# EAGLE library part 4814P-T01E (library EW_Resistors)
BOURNS RESISTOR NETWORK
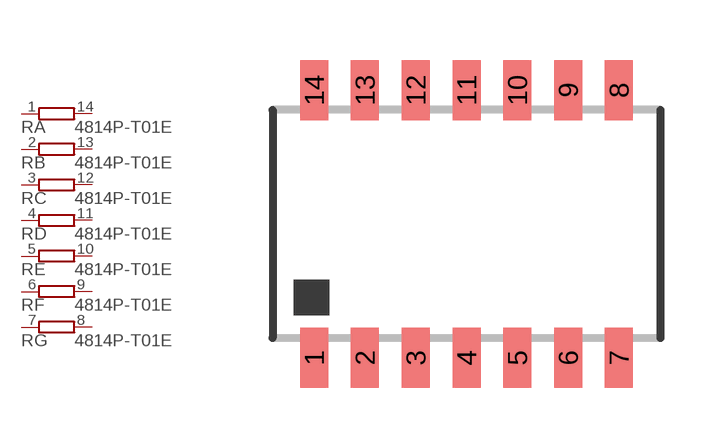
[diagram p23: symbol with the pads of 4814P; footprint 4814P]

Designator prefix R; gates A=R1NV-4 B=R1NV-4 C=R1NV-4 D=R1NV-4 E=R1NV-4 F=R1NV-4 G=R1NV-4

## 4814P-T01E (OC_FARNELL: unknown; OC_NEWARK: unknown)  [4814P]
1  A:1  pas
2  B:1  pas
3  C:1  pas
4  D:1  pas
5  E:1  pas
6  F:1  pas
7  G:1  pas
8  G:2  pas
9  F:2  pas
10  E:2  pas
11  D:2  pas
12  C:2  pas
13  B:2  pas
14  A:2  pas

## Footprint 4814P (pad centres in mm)
BOURNS RESISTOR NETWORK
smd 0.7 x 1.5: 1 -3.81,-3.346; 2 -2.54,-3.346; 3 -1.27,-3.346; 4 0,-3.346; 5 1.27,-3.346; 6 2.54,-3.346; 7 3.81,-3.346; 8 3.81,3.346; 9 2.54,3.346; 10 1.27,3.346; 11 0,3.346; 12 -1.27,3.346; 13 -2.54,3.346; 14 -3.81,3.346